# EAGLE library part LAIRD_BL600 (library ewheel32)
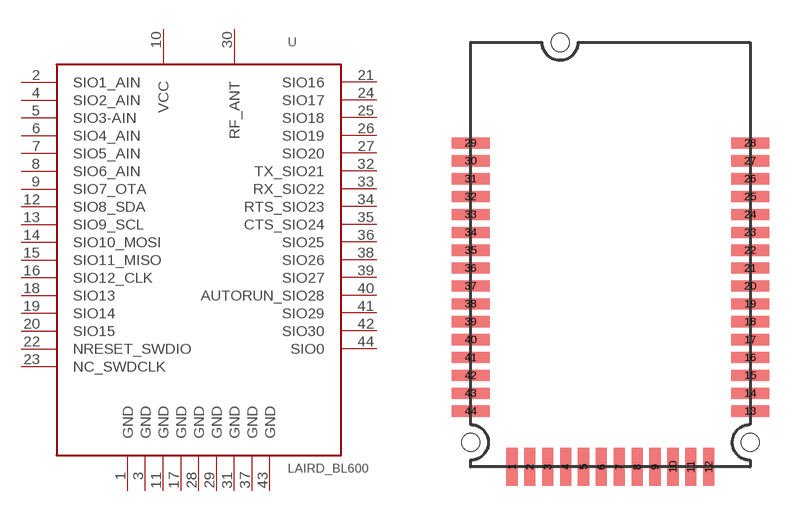
[diagram p0: symbol with the pads of BL600; footprint BL600]

Designator prefix -

## LAIRD_BL600BL600XX  [BL600]
1  GND  pwr
2  SIO1_AIN
3  GND  pwr
4  SIO2_AIN
5  SIO3-AIN
6  SIO4_AIN
7  SIO5_AIN
8  SIO6_AIN
9  SIO7_OTA
10  VCC  pwr
11  GND  pwr
12  SIO8_SDA
13  SIO9_SCL
14  SIO10_MOSI
15  SIO11_MISO
16  SIO12_CLK
17  GND  pwr
18  SIO13
19  SIO14
20  SIO15
21  SIO16
22  NRESET_SWDIO
23  NC_SWDCLK
24  SIO17
25  SIO18
26  SIO19
27  SIO20
28  GND  pwr
29  GND  pwr
30  RF_ANT
31  GND  pwr
32  TX_SIO21
33  RX_SIO22
34  RTS_SIO23
35  CTS_SIO24
36  SIO25
37  GND  pwr
38  SIO26
39  SIO27
40  AUTORUN_SIO28
41  SIO29
42  SIO30
43  GND  pwr
44  SIO0

## Footprint BL600 (pad centres in mm)
smd 0.5 x 1.7: 1 1.85,0; 2 2.65,0; 3 3.45,0; 4 4.25,0; 5 5.05,0; 6 5.85,0; 7 6.65,0; 8 7.45,0; 9 8.25,0; 10 9.05,0; 11 9.85,0; 12 10.65,0
smd 1.7 x 0.5: 13 12.5,2.5; 14 12.5,3.3; 15 12.5,4.1; 16 12.5,4.9; 17 12.5,5.7; 18 12.5,6.5; 19 12.5,7.3; 20 12.5,8.1; 21 12.5,8.9; 22 12.5,9.7; 23 12.5,10.5; 24 12.5,11.3; 25 12.5,12.1; 26 12.5,12.9; 27 12.5,13.7; 28 12.5,14.5; 29 0,14.5; 30 0,13.7; 31 0,12.9; 32 0,12.1; 33 0,11.3; 34 0,10.5; 35 0,9.7; 36 0,8.9; 37 0,8.1; 38 0,7.3; 39 0,6.5; 40 0,5.7; 41 0,4.9; 42 0,4.1; 43 0,3.3; 44 0,2.5
hole 0.8 at 0,1.1
hole 0.8 at 12.5,1.1
hole 0.8 at 4,19